# Altium footprint library SM_R-2up-0606-convex.PcbLib: 1 footprints
Each footprint in its own frame and in the unit in brackets; x right, y up, seen from the top. Pads: shape width x height; smd on the part's side, far side on the other; paste and mask are expansions set on the pad; w line width, h text height; cw(c..) or ccw(c..) is an arc to the next point about the centre after c.
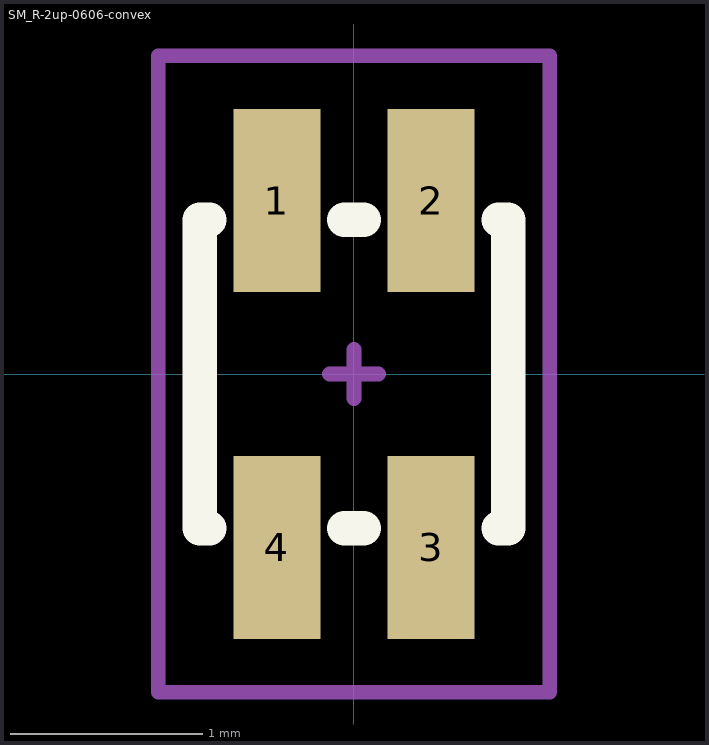
[diagram p0: the footprint, top view; thin cyan lines are the x and y axes]

## SM_R-2up-0606-convex [mm] "2up resistor array in 0606 package"
pads (4):
  rect 0.45x0.95 smd: 1(-0.4,0.9) 2(0.4,0.9) 3(0.4,-0.9) 4(-0.4,-0.9)
Top Overlay:
  lines w0.178: -0.75,-0.8 -0.8,-0.8 -0.8,0.8 -0.75,0.8 ; -0.05,-0.8 0.05,-0.8 ; -0.05,0.8 0.05,0.8 ; 0.75,-0.8 0.8,-0.8 0.8,0.8 0.75,0.8
Mechanical 15:
  lines w0.076: -0.127,0 0.127,0 ; 0,-0.127 0,0.127 ; -1.016,-1.651 -1.016,1.651 1.016,1.651 1.016,-1.651 -1.016,-1.651
3D body: height 0.31, standoff 0, extent -0.625,-0.8 0.625,-0.5
3D body: height 0.3, standoff 0, extent -0.8,-0.8 0.8,0.8
3D body: height 0.31, standoff 0, extent -0.625,0.5 0.625,0.8